# Altium footprint library QUTMS_MOSFETLibrary.PcbLib: 3 footprints
Each footprint in its own frame and in the unit in brackets; x right, y up, seen from the top. Pads: shape width x height; smd on the part's side, far side on the other; paste and mask are expansions set on the pad; w line width, h text height; cw(c..) or ccw(c..) is an arc to the next point about the centre after c.
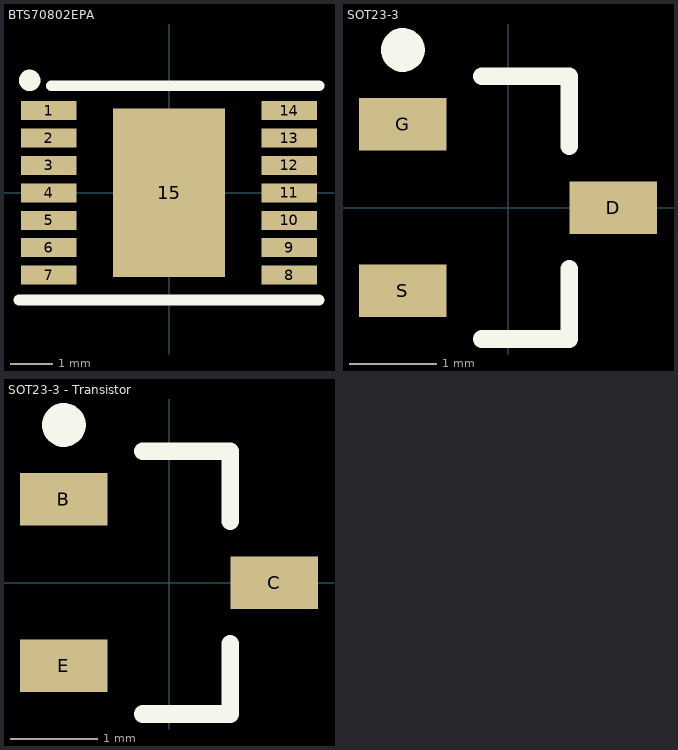
[diagram p0: the footprints below, top view; thin cyan lines are the x and y axes]

## BTS70802EPA [mm]
pads (15):
  rect 1.32x0.45 smd: 1(-2.85,1.95) 2(-2.85,1.3) 3(-2.85,0.65) 4(-2.85,0) 5(-2.85,-0.65) 6(-2.85,-1.3) 7(-2.85,-1.95) 8(2.85,-1.95) 9(2.85,-1.3) 10(2.85,-0.65) 11(2.85,0) 12(2.85,0.65) 13(2.85,1.3) 14(2.85,1.95)
  rect 2.65x4 smd paste-100: 15(0,0)
Top Overlay:
  circle w0.254: c-3.302,2.667 r0.127
  lines w0.254: -3.556,-2.54 3.556,-2.54 ; -2.794,2.54 3.556,2.54
Top Paste:
  rectangle: -1.325,-2 1.325,-0.15
  rectangle: -1.325,0.15 1.325,2
3D body "PG-TSDSO-14-22_INF.step": height 1.15, standoff -0.05, extent -3.099,-2.502 3.099,2.502

## SOT23-3 [mm] "SOT23, 3-Leads, Body 2.90x2.45mm, Pitch 0.95mm, IPC Medium Density"
height 1.1
pads (3):
  rect 1x0.6 smd: D(1.2,0) G(-1.2,0.95) S(-1.2,-0.95)
Top Overlay:
  circle w0.25: c-1.2,1.8 r0.125
  lines w0.2: -0.3,-1.5 0.7,-1.5 0.7,-0.7 ; -0.3,1.5 0.7,1.5 0.7,0.7
3D body "SOT95P245X110-3N.step": height 1.1, standoff 0, extent -1.3,-1.5 1.3,1.5

## SOT23-3 - Transistor [mm] "SOT23, 3-Leads, Body 2.90x2.45mm, Pitch 0.95mm, IPC Medium Density"
height 1.1
pads (3):
  rect 1x0.6 smd: B(-1.2,0.95) C(1.2,0) E(-1.2,-0.95)
Top Overlay:
  circle w0.25: c-1.2,1.8 r0.125
  lines w0.2: -0.3,-1.5 0.7,-1.5 0.7,-0.7 ; -0.3,1.5 0.7,1.5 0.7,0.7
3D body "SOT95P245X110-3N.step": height 1.1, standoff 0, extent -1.3,-1.5 1.3,1.5